# EAGLE library part S4B-PH-SM4-TB (library untitled)
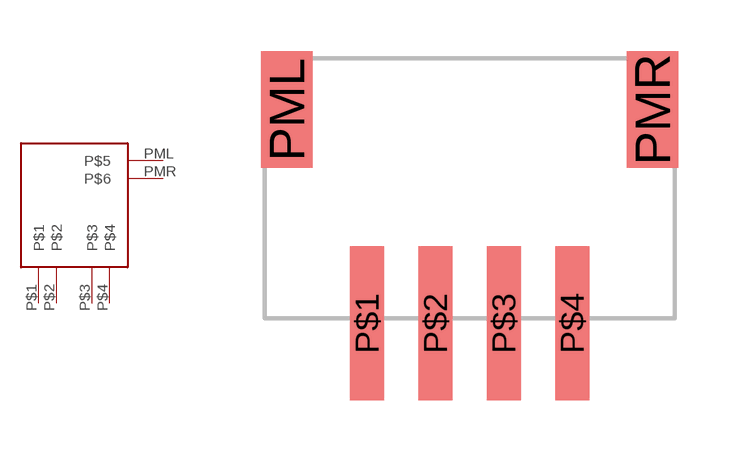
[diagram p25: symbol with the pads of S4B-PH-SM4-TB; footprint S4B-PH-SM4-TB]

Designator prefix -

## S4B-PH-SM4-TB  [S4B-PH-SM4-TB]
P$1  P$1
P$2  P$2
P$3  P$3
P$4  P$4
PML  P$5
PMR  P$6

## Footprint S4B-PH-SM4-TB (pad centres in mm)
smd 1 x 4.5: P$1 -3,-7.75; P$2 -1,-7.75; P$3 1,-7.75; P$4 3,-7.75
smd 1.5 x 3.4: PML -5.35,-1.5; PMR 5.35,-1.5